# Altium footprint library BGA_Sq_127P.PcbLib: 89 footprints (part 5 of 20)
Each footprint in its own frame and in the unit in brackets; x right, y up, seen from the top. Pads: shape width x height; smd on the part's side, far side on the other; paste and mask are expansions set on the pad; w line width, h text height; cw(c..) or ccw(c..) is an arc to the next point about the centre after c.
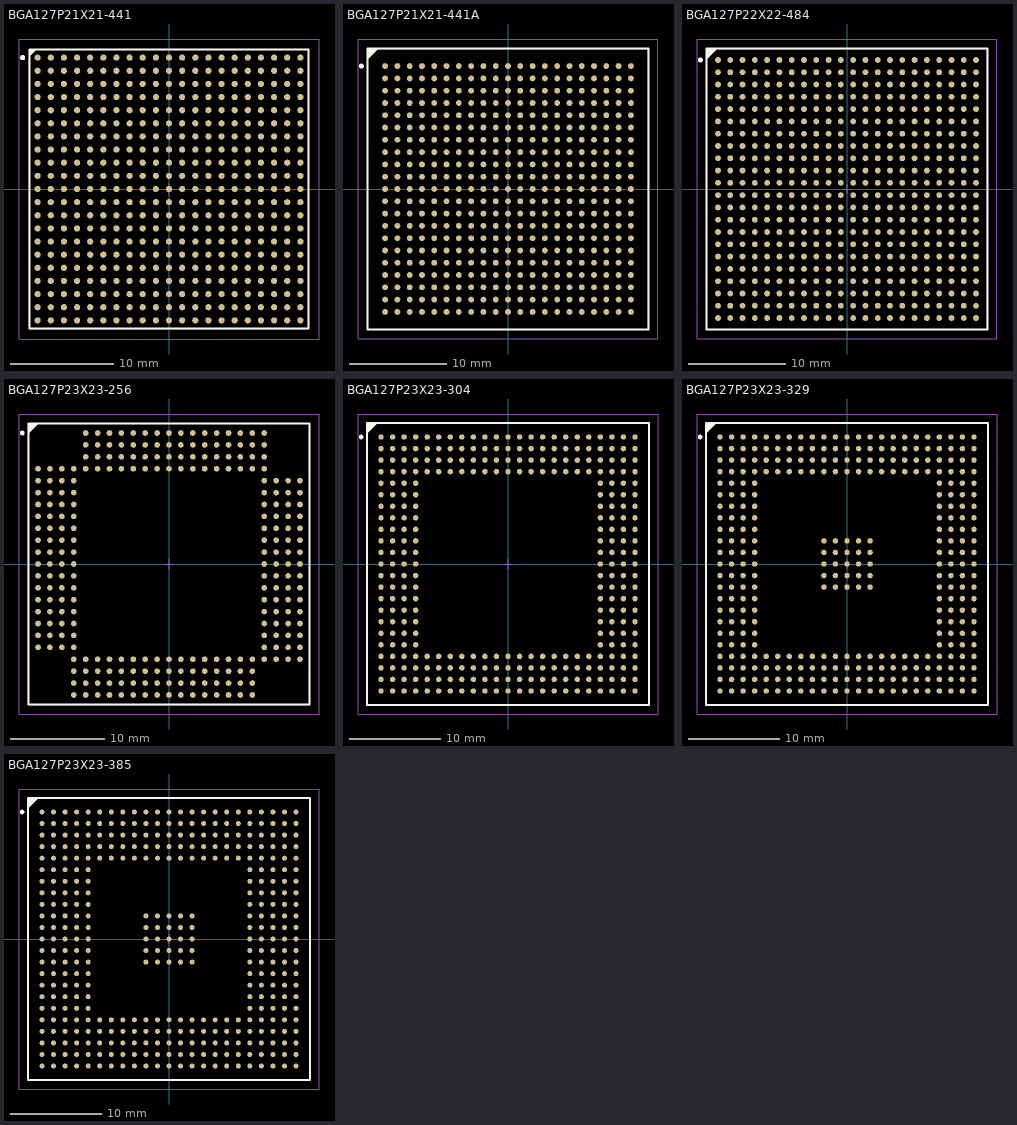
[diagram p4: the footprints below, top view; thin cyan lines are the x and y axes]

## BGA127P21X21-441 [mm] "BGA, 441-Leads, Body 27x27mm, Pitch 1.27mm"
height 3.5
pads (441):
  round 0.6 smd: A1(-12.7,12.7) A2(-11.43,12.7) A3(-10.16,12.7) A4(-8.89,12.7) A5(-7.62,12.7) A6(-6.35,12.7) A7(-5.08,12.7) A8(-3.81,12.7) A9(-2.54,12.7) A10(-1.27,12.7) A11(0,12.7) A12(1.27,12.7) A13(2.54,12.7) A14(3.81,12.7) A15(5.08,12.7) A16(6.35,12.7) A17(7.62,12.7) A18(8.89,12.7) A19(10.16,12.7) A20(11.43,12.7) A21(12.7,12.7) AA1(-12.7,-12.7) AA2(-11.43,-12.7) AA3(-10.16,-12.7) AA4(-8.89,-12.7) AA5(-7.62,-12.7) AA6(-6.35,-12.7) AA7(-5.08,-12.7) AA8(-3.81,-12.7) AA9(-2.54,-12.7) AA10(-1.27,-12.7) AA11(0,-12.7) AA12(1.27,-12.7) AA13(2.54,-12.7) AA14(3.81,-12.7) AA15(5.08,-12.7) AA16(6.35,-12.7) AA17(7.62,-12.7) AA18(8.89,-12.7) AA19(10.16,-12.7) AA20(11.43,-12.7) AA21(12.7,-12.7) B1(-12.7,11.43) B2(-11.43,11.43) B3(-10.16,11.43) B4(-8.89,11.43) B5(-7.62,11.43) B6(-6.35,11.43) B7(-5.08,11.43) B8(-3.81,11.43) B9(-2.54,11.43) B10(-1.27,11.43) B11(0,11.43) B12(1.27,11.43) B13(2.54,11.43) B14(3.81,11.43) B15(5.08,11.43) B16(6.35,11.43) B17(7.62,11.43) B18(8.89,11.43) B19(10.16,11.43) B20(11.43,11.43) B21(12.7,11.43) C1(-12.7,10.16) C2(-11.43,10.16) C3(-10.16,10.16) C4(-8.89,10.16) C5(-7.62,10.16) C6(-6.35,10.16) C7(-5.08,10.16) C8(-3.81,10.16) C9(-2.54,10.16) C10(-1.27,10.16) C11(0,10.16) C12(1.27,10.16) C13(2.54,10.16) C14(3.81,10.16) C15(5.08,10.16) C16(6.35,10.16) C17(7.62,10.16) C18(8.89,10.16) C19(10.16,10.16) C20(11.43,10.16) C21(12.7,10.16) D1(-12.7,8.89) D2(-11.43,8.89) D3(-10.16,8.89) D4(-8.89,8.89) D5(-7.62,8.89) D6(-6.35,8.89) D7(-5.08,8.89) D8(-3.81,8.89) D9(-2.54,8.89) D10(-1.27,8.89) D11(0,8.89) D12(1.27,8.89) D13(2.54,8.89) D14(3.81,8.89) D15(5.08,8.89) D16(6.35,8.89) D17(7.62,8.89) D18(8.89,8.89) D19(10.16,8.89) D20(11.43,8.89) D21(12.7,8.89) E1(-12.7,7.62) E2(-11.43,7.62) E3(-10.16,7.62) E4(-8.89,7.62) E5(-7.62,7.62) E6(-6.35,7.62) E7(-5.08,7.62) E8(-3.81,7.62) E9(-2.54,7.62) E10(-1.27,7.62) E11(0,7.62) E12(1.27,7.62) E13(2.54,7.62) E14(3.81,7.62) E15(5.08,7.62) E16(6.35,7.62) E17(7.62,7.62) E18(8.89,7.62) E19(10.16,7.62) E20(11.43,7.62) E21(12.7,7.62) F1(-12.7,6.35) F2(-11.43,6.35) F3(-10.16,6.35) F4(-8.89,6.35) F5(-7.62,6.35) F6(-6.35,6.35) F7(-5.08,6.35) F8(-3.81,6.35) F9(-2.54,6.35) F10(-1.27,6.35) F11(0,6.35) F12(1.27,6.35) F13(2.54,6.35) F14(3.81,6.35) F15(5.08,6.35) F16(6.35,6.35) F17(7.62,6.35) F18(8.89,6.35) F19(10.16,6.35) F20(11.43,6.35) F21(12.7,6.35) G1(-12.7,5.08) G2(-11.43,5.08) G3(-10.16,5.08) G4(-8.89,5.08) G5(-7.62,5.08) G6(-6.35,5.08) G7(-5.08,5.08) G8(-3.81,5.08) G9(-2.54,5.08) G10(-1.27,5.08) G11(0,5.08) G12(1.27,5.08) G13(2.54,5.08) G14(3.81,5.08) G15(5.08,5.08) G16(6.35,5.08) G17(7.62,5.08) G18(8.89,5.08) G19(10.16,5.08) G20(11.43,5.08) G21(12.7,5.08) H1(-12.7,3.81) H2(-11.43,3.81) H3(-10.16,3.81) H4(-8.89,3.81) H5(-7.62,3.81) H6(-6.35,3.81) H7(-5.08,3.81) H8(-3.81,3.81) H9(-2.54,3.81) H10(-1.27,3.81) H11(0,3.81) H12(1.27,3.81) H13(2.54,3.81) H14(3.81,3.81) H15(5.08,3.81) H16(6.35,3.81) H17(7.62,3.81) H18(8.89,3.81) H19(10.16,3.81) H20(11.43,3.81) H21(12.7,3.81) J1(-12.7,2.54) J2(-11.43,2.54) J3(-10.16,2.54) J4(-8.89,2.54) J5(-7.62,2.54) J6(-6.35,2.54) J7(-5.08,2.54) J8(-3.81,2.54) J9(-2.54,2.54) J10(-1.27,2.54) J11(0,2.54) J12(1.27,2.54) J13(2.54,2.54) J14(3.81,2.54) J15(5.08,2.54) J16(6.35,2.54) J17(7.62,2.54) J18(8.89,2.54) J19(10.16,2.54) J20(11.43,2.54) J21(12.7,2.54) K1(-12.7,1.27) K2(-11.43,1.27) K3(-10.16,1.27) K4(-8.89,1.27) K5(-7.62,1.27) K6(-6.35,1.27) K7(-5.08,1.27) K8(-3.81,1.27) K9(-2.54,1.27) K10(-1.27,1.27) K11(0,1.27) K12(1.27,1.27) K13(2.54,1.27) K14(3.81,1.27) K15(5.08,1.27) K16(6.35,1.27) K17(7.62,1.27) K18(8.89,1.27) K19(10.16,1.27) K20(11.43,1.27) K21(12.7,1.27) L1(-12.7,0) L2(-11.43,0) L3(-10.16,0) L4(-8.89,0) L5(-7.62,0) L6(-6.35,0) L7(-5.08,0) L8(-3.81,0) L9(-2.54,0) L10(-1.27,0) L11(0,0) L12(1.27,0) L13(2.54,0) L14(3.81,0) L15(5.08,0) L16(6.35,0) L17(7.62,0) L18(8.89,0) L19(10.16,0) L20(11.43,0) L21(12.7,0) M1(-12.7,-1.27) M2(-11.43,-1.27) M3(-10.16,-1.27) M4(-8.89,-1.27) M5(-7.62,-1.27) M6(-6.35,-1.27) M7(-5.08,-1.27) M8(-3.81,-1.27) M9(-2.54,-1.27) M10(-1.27,-1.27) M11(0,-1.27) M12(1.27,-1.27) M13(2.54,-1.27) M14(3.81,-1.27) M15(5.08,-1.27) M16(6.35,-1.27) M17(7.62,-1.27) M18(8.89,-1.27) M19(10.16,-1.27) M20(11.43,-1.27) M21(12.7,-1.27) N1(-12.7,-2.54) N2(-11.43,-2.54) N3(-10.16,-2.54) N4(-8.89,-2.54) N5(-7.62,-2.54) N6(-6.35,-2.54) N7(-5.08,-2.54) N8(-3.81,-2.54) N9(-2.54,-2.54) N10(-1.27,-2.54) N11(0,-2.54) N12(1.27,-2.54) N13(2.54,-2.54) N14(3.81,-2.54) N15(5.08,-2.54) N16(6.35,-2.54) N17(7.62,-2.54) N18(8.89,-2.54) N19(10.16,-2.54) N20(11.43,-2.54) N21(12.7,-2.54) P1(-12.7,-3.81) P2(-11.43,-3.81) P3(-10.16,-3.81) P4(-8.89,-3.81) P5(-7.62,-3.81) P6(-6.35,-3.81) P7(-5.08,-3.81) P8(-3.81,-3.81) P9(-2.54,-3.81) P10(-1.27,-3.81) P11(0,-3.81) P12(1.27,-3.81) P13(2.54,-3.81) P14(3.81,-3.81) P15(5.08,-3.81) P16(6.35,-3.81) P17(7.62,-3.81) P18(8.89,-3.81) P19(10.16,-3.81) P20(11.43,-3.81) P21(12.7,-3.81) R1(-12.7,-5.08) R2(-11.43,-5.08) R3(-10.16,-5.08) R4(-8.89,-5.08) R5(-7.62,-5.08) R6(-6.35,-5.08) R7(-5.08,-5.08) R8(-3.81,-5.08) R9(-2.54,-5.08) R10(-1.27,-5.08) R11(0,-5.08) R12(1.27,-5.08) R13(2.54,-5.08) R14(3.81,-5.08) R15(5.08,-5.08) R16(6.35,-5.08) R17(7.62,-5.08) R18(8.89,-5.08) R19(10.16,-5.08) R20(11.43,-5.08) R21(12.7,-5.08) T1(-12.7,-6.35) T2(-11.43,-6.35) T3(-10.16,-6.35) T4(-8.89,-6.35) T5(-7.62,-6.35) T6(-6.35,-6.35) T7(-5.08,-6.35) T8(-3.81,-6.35) T9(-2.54,-6.35) T10(-1.27,-6.35) T11(0,-6.35) T12(1.27,-6.35) T13(2.54,-6.35) T14(3.81,-6.35) T15(5.08,-6.35) T16(6.35,-6.35) T17(7.62,-6.35) T18(8.89,-6.35) T19(10.16,-6.35) T20(11.43,-6.35) T21(12.7,-6.35) U1(-12.7,-7.62) U2(-11.43,-7.62) U3(-10.16,-7.62) U4(-8.89,-7.62) U5(-7.62,-7.62) U6(-6.35,-7.62) U7(-5.08,-7.62) U8(-3.81,-7.62) U9(-2.54,-7.62) U10(-1.27,-7.62) U11(0,-7.62) U12(1.27,-7.62) U13(2.54,-7.62) U14(3.81,-7.62) U15(5.08,-7.62) U16(6.35,-7.62) U17(7.62,-7.62) U18(8.89,-7.62) U19(10.16,-7.62) U20(11.43,-7.62) U21(12.7,-7.62) V1(-12.7,-8.89) V2(-11.43,-8.89) V3(-10.16,-8.89) V4(-8.89,-8.89) V5(-7.62,-8.89) V6(-6.35,-8.89) V7(-5.08,-8.89) V8(-3.81,-8.89) V9(-2.54,-8.89) V10(-1.27,-8.89) V11(0,-8.89) V12(1.27,-8.89) V13(2.54,-8.89) V14(3.81,-8.89) V15(5.08,-8.89) V16(6.35,-8.89) V17(7.62,-8.89) V18(8.89,-8.89) V19(10.16,-8.89) V20(11.43,-8.89) V21(12.7,-8.89) W1(-12.7,-10.16) W2(-11.43,-10.16) W3(-10.16,-10.16) W4(-8.89,-10.16) W5(-7.62,-10.16) W6(-6.35,-10.16) W7(-5.08,-10.16) W8(-3.81,-10.16) W9(-2.54,-10.16) W10(-1.27,-10.16) W11(0,-10.16) W12(1.27,-10.16) W13(2.54,-10.16) W14(3.81,-10.16) W15(5.08,-10.16) W16(6.35,-10.16) W17(7.62,-10.16) W18(8.89,-10.16) W19(10.16,-10.16) W20(11.43,-10.16) W21(12.7,-10.16) Y1(-12.7,-11.43) Y2(-11.43,-11.43) Y3(-10.16,-11.43) Y4(-8.89,-11.43) Y5(-7.62,-11.43) Y6(-6.35,-11.43) Y7(-5.08,-11.43) Y8(-3.81,-11.43) Y9(-2.54,-11.43) Y10(-1.27,-11.43) Y11(0,-11.43) Y12(1.27,-11.43) Y13(2.54,-11.43) Y14(3.81,-11.43) Y15(5.08,-11.43) Y16(6.35,-11.43) Y17(7.62,-11.43) Y18(8.89,-11.43) Y19(10.16,-11.43) Y20(11.43,-11.43) Y21(12.7,-11.43)
Top Overlay:
  circle w0.25: c-14.15,12.7 r0.125
  region: -12.89,13.5 -13.5,12.89 -13.5,13.5
  lines w0.2: -13.5,12.89 -12.89,13.5 ; -13.5,-13.5 -13.5,13.5 13.5,13.5 13.5,-13.5 -13.5,-13.5
Mechanical 13:
  lines w0.1: -13.5,-13.5 -13.5,13.5 13.5,13.5 13.5,-13.5 -13.5,-13.5
Mechanical 15:
  lines w0.1: -0.5,0 0.5,0 ; 0,-0.5 0,0.5 ; -14.5,-14.5 -14.5,14.5 14.5,14.5 14.5,-14.5 -14.5,-14.5
3D body: height 3.5, standoff 0, extent -13.5,-13.5 13.5,13.5

## BGA127P21X21-441A [mm] "BGA, 441-Leads, Body 29x29mm, Pitch 1.27mm"
height 3.5
pads (441):
  round 0.6 smd: A1(-12.7,12.7) A2(-11.43,12.7) A3(-10.16,12.7) A4(-8.89,12.7) A5(-7.62,12.7) A6(-6.35,12.7) A7(-5.08,12.7) A8(-3.81,12.7) A9(-2.54,12.7) A10(-1.27,12.7) A11(0,12.7) A12(1.27,12.7) A13(2.54,12.7) A14(3.81,12.7) A15(5.08,12.7) A16(6.35,12.7) A17(7.62,12.7) A18(8.89,12.7) A19(10.16,12.7) A20(11.43,12.7) A21(12.7,12.7) AA1(-12.7,-12.7) AA2(-11.43,-12.7) AA3(-10.16,-12.7) AA4(-8.89,-12.7) AA5(-7.62,-12.7) AA6(-6.35,-12.7) AA7(-5.08,-12.7) AA8(-3.81,-12.7) AA9(-2.54,-12.7) AA10(-1.27,-12.7) AA11(0,-12.7) AA12(1.27,-12.7) AA13(2.54,-12.7) AA14(3.81,-12.7) AA15(5.08,-12.7) AA16(6.35,-12.7) AA17(7.62,-12.7) AA18(8.89,-12.7) AA19(10.16,-12.7) AA20(11.43,-12.7) AA21(12.7,-12.7) B1(-12.7,11.43) B2(-11.43,11.43) B3(-10.16,11.43) B4(-8.89,11.43) B5(-7.62,11.43) B6(-6.35,11.43) B7(-5.08,11.43) B8(-3.81,11.43) B9(-2.54,11.43) B10(-1.27,11.43) B11(0,11.43) B12(1.27,11.43) B13(2.54,11.43) B14(3.81,11.43) B15(5.08,11.43) B16(6.35,11.43) B17(7.62,11.43) B18(8.89,11.43) B19(10.16,11.43) B20(11.43,11.43) B21(12.7,11.43) C1(-12.7,10.16) C2(-11.43,10.16) C3(-10.16,10.16) C4(-8.89,10.16) C5(-7.62,10.16) C6(-6.35,10.16) C7(-5.08,10.16) C8(-3.81,10.16) C9(-2.54,10.16) C10(-1.27,10.16) C11(0,10.16) C12(1.27,10.16) C13(2.54,10.16) C14(3.81,10.16) C15(5.08,10.16) C16(6.35,10.16) C17(7.62,10.16) C18(8.89,10.16) C19(10.16,10.16) C20(11.43,10.16) C21(12.7,10.16) D1(-12.7,8.89) D2(-11.43,8.89) D3(-10.16,8.89) D4(-8.89,8.89) D5(-7.62,8.89) D6(-6.35,8.89) D7(-5.08,8.89) D8(-3.81,8.89) D9(-2.54,8.89) D10(-1.27,8.89) D11(0,8.89) D12(1.27,8.89) D13(2.54,8.89) D14(3.81,8.89) D15(5.08,8.89) D16(6.35,8.89) D17(7.62,8.89) D18(8.89,8.89) D19(10.16,8.89) D20(11.43,8.89) D21(12.7,8.89) E1(-12.7,7.62) E2(-11.43,7.62) E3(-10.16,7.62) E4(-8.89,7.62) E5(-7.62,7.62) E6(-6.35,7.62) E7(-5.08,7.62) E8(-3.81,7.62) E9(-2.54,7.62) E10(-1.27,7.62) E11(0,7.62) E12(1.27,7.62) E13(2.54,7.62) E14(3.81,7.62) E15(5.08,7.62) E16(6.35,7.62) E17(7.62,7.62) E18(8.89,7.62) E19(10.16,7.62) E20(11.43,7.62) E21(12.7,7.62) F1(-12.7,6.35) F2(-11.43,6.35) F3(-10.16,6.35) F4(-8.89,6.35) F5(-7.62,6.35) F6(-6.35,6.35) F7(-5.08,6.35) F8(-3.81,6.35) F9(-2.54,6.35) F10(-1.27,6.35) F11(0,6.35) F12(1.27,6.35) F13(2.54,6.35) F14(3.81,6.35) F15(5.08,6.35) F16(6.35,6.35) F17(7.62,6.35) F18(8.89,6.35) F19(10.16,6.35) F20(11.43,6.35) F21(12.7,6.35) G1(-12.7,5.08) G2(-11.43,5.08) G3(-10.16,5.08) G4(-8.89,5.08) G5(-7.62,5.08) G6(-6.35,5.08) G7(-5.08,5.08) G8(-3.81,5.08) G9(-2.54,5.08) G10(-1.27,5.08) G11(0,5.08) G12(1.27,5.08) G13(2.54,5.08) G14(3.81,5.08) G15(5.08,5.08) G16(6.35,5.08) G17(7.62,5.08) G18(8.89,5.08) G19(10.16,5.08) G20(11.43,5.08) G21(12.7,5.08) H1(-12.7,3.81) H2(-11.43,3.81) H3(-10.16,3.81) H4(-8.89,3.81) H5(-7.62,3.81) H6(-6.35,3.81) H7(-5.08,3.81) H8(-3.81,3.81) H9(-2.54,3.81) H10(-1.27,3.81) H11(0,3.81) H12(1.27,3.81) H13(2.54,3.81) H14(3.81,3.81) H15(5.08,3.81) H16(6.35,3.81) H17(7.62,3.81) H18(8.89,3.81) H19(10.16,3.81) H20(11.43,3.81) H21(12.7,3.81) J1(-12.7,2.54) J2(-11.43,2.54) J3(-10.16,2.54) J4(-8.89,2.54) J5(-7.62,2.54) J6(-6.35,2.54) J7(-5.08,2.54) J8(-3.81,2.54) J9(-2.54,2.54) J10(-1.27,2.54) J11(0,2.54) J12(1.27,2.54) J13(2.54,2.54) J14(3.81,2.54) J15(5.08,2.54) J16(6.35,2.54) J17(7.62,2.54) J18(8.89,2.54) J19(10.16,2.54) J20(11.43,2.54) J21(12.7,2.54) K1(-12.7,1.27) K2(-11.43,1.27) K3(-10.16,1.27) K4(-8.89,1.27) K5(-7.62,1.27) K6(-6.35,1.27) K7(-5.08,1.27) K8(-3.81,1.27) K9(-2.54,1.27) K10(-1.27,1.27) K11(0,1.27) K12(1.27,1.27) K13(2.54,1.27) K14(3.81,1.27) K15(5.08,1.27) K16(6.35,1.27) K17(7.62,1.27) K18(8.89,1.27) K19(10.16,1.27) K20(11.43,1.27) K21(12.7,1.27) L1(-12.7,0) L2(-11.43,0) L3(-10.16,0) L4(-8.89,0) L5(-7.62,0) L6(-6.35,0) L7(-5.08,0) L8(-3.81,0) L9(-2.54,0) L10(-1.27,0) L11(0,0) L12(1.27,0) L13(2.54,0) L14(3.81,0) L15(5.08,0) L16(6.35,0) L17(7.62,0) L18(8.89,0) L19(10.16,0) L20(11.43,0) L21(12.7,0) M1(-12.7,-1.27) M2(-11.43,-1.27) M3(-10.16,-1.27) M4(-8.89,-1.27) M5(-7.62,-1.27) M6(-6.35,-1.27) M7(-5.08,-1.27) M8(-3.81,-1.27) M9(-2.54,-1.27) M10(-1.27,-1.27) M11(0,-1.27) M12(1.27,-1.27) M13(2.54,-1.27) M14(3.81,-1.27) M15(5.08,-1.27) M16(6.35,-1.27) M17(7.62,-1.27) M18(8.89,-1.27) M19(10.16,-1.27) M20(11.43,-1.27) M21(12.7,-1.27) N1(-12.7,-2.54) N2(-11.43,-2.54) N3(-10.16,-2.54) N4(-8.89,-2.54) N5(-7.62,-2.54) N6(-6.35,-2.54) N7(-5.08,-2.54) N8(-3.81,-2.54) N9(-2.54,-2.54) N10(-1.27,-2.54) N11(0,-2.54) N12(1.27,-2.54) N13(2.54,-2.54) N14(3.81,-2.54) N15(5.08,-2.54) N16(6.35,-2.54) N17(7.62,-2.54) N18(8.89,-2.54) N19(10.16,-2.54) N20(11.43,-2.54) N21(12.7,-2.54) P1(-12.7,-3.81) P2(-11.43,-3.81) P3(-10.16,-3.81) P4(-8.89,-3.81) P5(-7.62,-3.81) P6(-6.35,-3.81) P7(-5.08,-3.81) P8(-3.81,-3.81) P9(-2.54,-3.81) P10(-1.27,-3.81) P11(0,-3.81) P12(1.27,-3.81) P13(2.54,-3.81) P14(3.81,-3.81) P15(5.08,-3.81) P16(6.35,-3.81) P17(7.62,-3.81) P18(8.89,-3.81) P19(10.16,-3.81) P20(11.43,-3.81) P21(12.7,-3.81) R1(-12.7,-5.08) R2(-11.43,-5.08) R3(-10.16,-5.08) R4(-8.89,-5.08) R5(-7.62,-5.08) R6(-6.35,-5.08) R7(-5.08,-5.08) R8(-3.81,-5.08) R9(-2.54,-5.08) R10(-1.27,-5.08) R11(0,-5.08) R12(1.27,-5.08) R13(2.54,-5.08) R14(3.81,-5.08) R15(5.08,-5.08) R16(6.35,-5.08) R17(7.62,-5.08) R18(8.89,-5.08) R19(10.16,-5.08) R20(11.43,-5.08) R21(12.7,-5.08) T1(-12.7,-6.35) T2(-11.43,-6.35) T3(-10.16,-6.35) T4(-8.89,-6.35) T5(-7.62,-6.35) T6(-6.35,-6.35) T7(-5.08,-6.35) T8(-3.81,-6.35) T9(-2.54,-6.35) T10(-1.27,-6.35) T11(0,-6.35) T12(1.27,-6.35) T13(2.54,-6.35) T14(3.81,-6.35) T15(5.08,-6.35) T16(6.35,-6.35) T17(7.62,-6.35) T18(8.89,-6.35) T19(10.16,-6.35) T20(11.43,-6.35) T21(12.7,-6.35) U1(-12.7,-7.62) U2(-11.43,-7.62) U3(-10.16,-7.62) U4(-8.89,-7.62) U5(-7.62,-7.62) U6(-6.35,-7.62) U7(-5.08,-7.62) U8(-3.81,-7.62) U9(-2.54,-7.62) U10(-1.27,-7.62) U11(0,-7.62) U12(1.27,-7.62) U13(2.54,-7.62) U14(3.81,-7.62) U15(5.08,-7.62) U16(6.35,-7.62) U17(7.62,-7.62) U18(8.89,-7.62) U19(10.16,-7.62) U20(11.43,-7.62) U21(12.7,-7.62) V1(-12.7,-8.89) V2(-11.43,-8.89) V3(-10.16,-8.89) V4(-8.89,-8.89) V5(-7.62,-8.89) V6(-6.35,-8.89) V7(-5.08,-8.89) V8(-3.81,-8.89) V9(-2.54,-8.89) V10(-1.27,-8.89) V11(0,-8.89) V12(1.27,-8.89) V13(2.54,-8.89) V14(3.81,-8.89) V15(5.08,-8.89) V16(6.35,-8.89) V17(7.62,-8.89) V18(8.89,-8.89) V19(10.16,-8.89) V20(11.43,-8.89) V21(12.7,-8.89) W1(-12.7,-10.16) W2(-11.43,-10.16) W3(-10.16,-10.16) W4(-8.89,-10.16) W5(-7.62,-10.16) W6(-6.35,-10.16) W7(-5.08,-10.16) W8(-3.81,-10.16) W9(-2.54,-10.16) W10(-1.27,-10.16) W11(0,-10.16) W12(1.27,-10.16) W13(2.54,-10.16) W14(3.81,-10.16) W15(5.08,-10.16) W16(6.35,-10.16) W17(7.62,-10.16) W18(8.89,-10.16) W19(10.16,-10.16) W20(11.43,-10.16) W21(12.7,-10.16) Y1(-12.7,-11.43) Y2(-11.43,-11.43) Y3(-10.16,-11.43) Y4(-8.89,-11.43) Y5(-7.62,-11.43) Y6(-6.35,-11.43) Y7(-5.08,-11.43) Y8(-3.81,-11.43) Y9(-2.54,-11.43) Y10(-1.27,-11.43) Y11(0,-11.43) Y12(1.27,-11.43) Y13(2.54,-11.43) Y14(3.81,-11.43) Y15(5.08,-11.43) Y16(6.35,-11.43) Y17(7.62,-11.43) Y18(8.89,-11.43) Y19(10.16,-11.43) Y20(11.43,-11.43) Y21(12.7,-11.43)
Top Overlay:
  circle w0.25: c-15.15,12.7 r0.125
  region: -13.5,14.5 -14.5,13.5 -14.5,14.5
  lines w0.2: -14.5,13.5 -13.5,14.5 ; -14.5,-14.5 14.5,-14.5 14.5,14.5 -14.5,14.5 -14.5,-14.5
Mechanical 13:
  lines w0.1: -14.5,-14.5 14.5,-14.5 14.5,14.5 -14.5,14.5 -14.5,-14.5
Mechanical 15:
  lines w0.1: -0.5,0 0.5,0 ; 0,-0.5 0,0.5 ; -15.5,-15.5 15.5,-15.5 15.5,15.5 -15.5,15.5 -15.5,-15.5
3D body: height 3.5, standoff 0, extent -14.5,-14.5 14.5,14.5

## BGA127P22X22-484 [mm] "BGA, 484-Leads, Body 29x29mm, Pitch 1.27mm"
height 3.5
pads (484):
  round 0.6 smd: A1(-13.335,13.335) A2(-12.065,13.335) A3(-10.795,13.335) A4(-9.525,13.335) A5(-8.255,13.335) A6(-6.985,13.335) A7(-5.715,13.335) A8(-4.445,13.335) A9(-3.175,13.335) A10(-1.905,13.335) A11(-0.635,13.335) A12(0.635,13.335) A13(1.905,13.335) A14(3.175,13.335) A15(4.445,13.335) A16(5.715,13.335) A17(6.985,13.335) A18(8.255,13.335) A19(9.525,13.335) A20(10.795,13.335) A21(12.065,13.335) A22(13.335,13.335) AA1(-13.335,-12.065) AA2(-12.065,-12.065) AA3(-10.795,-12.065) AA4(-9.525,-12.065) AA5(-8.255,-12.065) AA6(-6.985,-12.065) AA7(-5.715,-12.065) AA8(-4.445,-12.065) AA9(-3.175,-12.065) AA10(-1.905,-12.065) AA11(-0.635,-12.065) AA12(0.635,-12.065) AA13(1.905,-12.065) AA14(3.175,-12.065) AA15(4.445,-12.065) AA16(5.715,-12.065) AA17(6.985,-12.065) AA18(8.255,-12.065) AA19(9.525,-12.065) AA20(10.795,-12.065) AA21(12.065,-12.065) AA22(13.335,-12.065) AB1(-13.335,-13.335) AB2(-12.065,-13.335) AB3(-10.795,-13.335) AB4(-9.525,-13.335) AB5(-8.255,-13.335) AB6(-6.985,-13.335) AB7(-5.715,-13.335) AB8(-4.445,-13.335) AB9(-3.175,-13.335) AB10(-1.905,-13.335) AB11(-0.635,-13.335) AB12(0.635,-13.335) AB13(1.905,-13.335) AB14(3.175,-13.335) AB15(4.445,-13.335) AB16(5.715,-13.335) AB17(6.985,-13.335) AB18(8.255,-13.335) AB19(9.525,-13.335) AB20(10.795,-13.335) AB21(12.065,-13.335) AB22(13.335,-13.335) B1(-13.335,12.065) B2(-12.065,12.065) B3(-10.795,12.065) B4(-9.525,12.065) B5(-8.255,12.065) B6(-6.985,12.065) B7(-5.715,12.065) B8(-4.445,12.065) B9(-3.175,12.065) B10(-1.905,12.065) B11(-0.635,12.065) B12(0.635,12.065) B13(1.905,12.065) B14(3.175,12.065) B15(4.445,12.065) B16(5.715,12.065) B17(6.985,12.065) B18(8.255,12.065) B19(9.525,12.065) B20(10.795,12.065) B21(12.065,12.065) B22(13.335,12.065) C1(-13.335,10.795) C2(-12.065,10.795) C3(-10.795,10.795) C4(-9.525,10.795) C5(-8.255,10.795) C6(-6.985,10.795) C7(-5.715,10.795) C8(-4.445,10.795) C9(-3.175,10.795) C10(-1.905,10.795) C11(-0.635,10.795) C12(0.635,10.795) C13(1.905,10.795) C14(3.175,10.795) C15(4.445,10.795) C16(5.715,10.795) C17(6.985,10.795) C18(8.255,10.795) C19(9.525,10.795) C20(10.795,10.795) C21(12.065,10.795) C22(13.335,10.795) D1(-13.335,9.525) D2(-12.065,9.525) D3(-10.795,9.525) D4(-9.525,9.525) D5(-8.255,9.525) D6(-6.985,9.525) D7(-5.715,9.525) D8(-4.445,9.525) D9(-3.175,9.525) D10(-1.905,9.525) D11(-0.635,9.525) D12(0.635,9.525) D13(1.905,9.525) D14(3.175,9.525) D15(4.445,9.525) D16(5.715,9.525) D17(6.985,9.525) D18(8.255,9.525) D19(9.525,9.525) D20(10.795,9.525) D21(12.065,9.525) D22(13.335,9.525) E1(-13.335,8.255) E2(-12.065,8.255) E3(-10.795,8.255) E4(-9.525,8.255) E5(-8.255,8.255) E6(-6.985,8.255) E7(-5.715,8.255) E8(-4.445,8.255) E9(-3.175,8.255) E10(-1.905,8.255) E11(-0.635,8.255) E12(0.635,8.255) E13(1.905,8.255) E14(3.175,8.255) E15(4.445,8.255) E16(5.715,8.255) E17(6.985,8.255) E18(8.255,8.255) E19(9.525,8.255) E20(10.795,8.255) E21(12.065,8.255) E22(13.335,8.255) F1(-13.335,6.985) F2(-12.065,6.985) F3(-10.795,6.985) F4(-9.525,6.985) F5(-8.255,6.985) F6(-6.985,6.985) F7(-5.715,6.985) F8(-4.445,6.985) F9(-3.175,6.985) F10(-1.905,6.985) F11(-0.635,6.985) F12(0.635,6.985) F13(1.905,6.985) F14(3.175,6.985) F15(4.445,6.985) F16(5.715,6.985) F17(6.985,6.985) F18(8.255,6.985) F19(9.525,6.985) F20(10.795,6.985) F21(12.065,6.985) F22(13.335,6.985) G1(-13.335,5.715) G2(-12.065,5.715) G3(-10.795,5.715) G4(-9.525,5.715) G5(-8.255,5.715) G6(-6.985,5.715) G7(-5.715,5.715) G8(-4.445,5.715) G9(-3.175,5.715) G10(-1.905,5.715) G11(-0.635,5.715) G12(0.635,5.715) G13(1.905,5.715) G14(3.175,5.715) G15(4.445,5.715) G16(5.715,5.715) G17(6.985,5.715) G18(8.255,5.715) G19(9.525,5.715) G20(10.795,5.715) G21(12.065,5.715) G22(13.335,5.715) H1(-13.335,4.445) H2(-12.065,4.445) H3(-10.795,4.445) H4(-9.525,4.445) H5(-8.255,4.445) H6(-6.985,4.445) H7(-5.715,4.445) H8(-4.445,4.445) H9(-3.175,4.445) H10(-1.905,4.445) H11(-0.635,4.445) H12(0.635,4.445) H13(1.905,4.445) H14(3.175,4.445) H15(4.445,4.445) H16(5.715,4.445) H17(6.985,4.445) H18(8.255,4.445) H19(9.525,4.445) H20(10.795,4.445) H21(12.065,4.445) H22(13.335,4.445) J1(-13.335,3.175) J2(-12.065,3.175) J3(-10.795,3.175) J4(-9.525,3.175) J5(-8.255,3.175) J6(-6.985,3.175) J7(-5.715,3.175) J8(-4.445,3.175) J9(-3.175,3.175) J10(-1.905,3.175) J11(-0.635,3.175) J12(0.635,3.175) J13(1.905,3.175) J14(3.175,3.175) J15(4.445,3.175) J16(5.715,3.175) J17(6.985,3.175) J18(8.255,3.175) J19(9.525,3.175) J20(10.795,3.175) J21(12.065,3.175) J22(13.335,3.175) K1(-13.335,1.905) K2(-12.065,1.905) K3(-10.795,1.905) K4(-9.525,1.905) K5(-8.255,1.905) K6(-6.985,1.905) K7(-5.715,1.905) K8(-4.445,1.905) K9(-3.175,1.905) K10(-1.905,1.905) K11(-0.635,1.905) K12(0.635,1.905) K13(1.905,1.905) K14(3.175,1.905) K15(4.445,1.905) K16(5.715,1.905) K17(6.985,1.905) K18(8.255,1.905) K19(9.525,1.905) K20(10.795,1.905) K21(12.065,1.905) K22(13.335,1.905) L1(-13.335,0.635) L2(-12.065,0.635) L3(-10.795,0.635) L4(-9.525,0.635) L5(-8.255,0.635) L6(-6.985,0.635) L7(-5.715,0.635) L8(-4.445,0.635) L9(-3.175,0.635) L10(-1.905,0.635) L11(-0.635,0.635) L12(0.635,0.635) L13(1.905,0.635) L14(3.175,0.635) L15(4.445,0.635) L16(5.715,0.635) L17(6.985,0.635) L18(8.255,0.635) L19(9.525,0.635) L20(10.795,0.635) L21(12.065,0.635) L22(13.335,0.635) M1(-13.335,-0.635) M2(-12.065,-0.635) M3(-10.795,-0.635) M4(-9.525,-0.635) M5(-8.255,-0.635) M6(-6.985,-0.635) M7(-5.715,-0.635) M8(-4.445,-0.635) M9(-3.175,-0.635) M10(-1.905,-0.635) M11(-0.635,-0.635) M12(0.635,-0.635) M13(1.905,-0.635) M14(3.175,-0.635) M15(4.445,-0.635) M16(5.715,-0.635) M17(6.985,-0.635) M18(8.255,-0.635) M19(9.525,-0.635) M20(10.795,-0.635) M21(12.065,-0.635) M22(13.335,-0.635) N1(-13.335,-1.905) N2(-12.065,-1.905) N3(-10.795,-1.905) N4(-9.525,-1.905) N5(-8.255,-1.905) N6(-6.985,-1.905) N7(-5.715,-1.905) N8(-4.445,-1.905) N9(-3.175,-1.905) N10(-1.905,-1.905) N11(-0.635,-1.905) N12(0.635,-1.905) N13(1.905,-1.905) N14(3.175,-1.905) N15(4.445,-1.905) N16(5.715,-1.905) N17(6.985,-1.905) N18(8.255,-1.905) N19(9.525,-1.905) N20(10.795,-1.905) N21(12.065,-1.905) N22(13.335,-1.905) P1(-13.335,-3.175) P2(-12.065,-3.175) P3(-10.795,-3.175) P4(-9.525,-3.175) P5(-8.255,-3.175) P6(-6.985,-3.175) P7(-5.715,-3.175) P8(-4.445,-3.175) P9(-3.175,-3.175) P10(-1.905,-3.175) P11(-0.635,-3.175) P12(0.635,-3.175) P13(1.905,-3.175) P14(3.175,-3.175) P15(4.445,-3.175) P16(5.715,-3.175) P17(6.985,-3.175) P18(8.255,-3.175) P19(9.525,-3.175) P20(10.795,-3.175) P21(12.065,-3.175) P22(13.335,-3.175) R1(-13.335,-4.445) R2(-12.065,-4.445) R3(-10.795,-4.445) R4(-9.525,-4.445) R5(-8.255,-4.445) R6(-6.985,-4.445) R7(-5.715,-4.445) R8(-4.445,-4.445) R9(-3.175,-4.445) R10(-1.905,-4.445) R11(-0.635,-4.445) R12(0.635,-4.445) R13(1.905,-4.445) R14(3.175,-4.445) R15(4.445,-4.445) R16(5.715,-4.445) R17(6.985,-4.445) R18(8.255,-4.445) R19(9.525,-4.445) R20(10.795,-4.445) R21(12.065,-4.445) R22(13.335,-4.445) T1(-13.335,-5.715) T2(-12.065,-5.715) T3(-10.795,-5.715) T4(-9.525,-5.715) T5(-8.255,-5.715) T6(-6.985,-5.715) T7(-5.715,-5.715) T8(-4.445,-5.715) T9(-3.175,-5.715) T10(-1.905,-5.715) T11(-0.635,-5.715) T12(0.635,-5.715) T13(1.905,-5.715) T14(3.175,-5.715) T15(4.445,-5.715) T16(5.715,-5.715) T17(6.985,-5.715) T18(8.255,-5.715) T19(9.525,-5.715) T20(10.795,-5.715) T21(12.065,-5.715) T22(13.335,-5.715) U1(-13.335,-6.985) U2(-12.065,-6.985) U3(-10.795,-6.985) U4(-9.525,-6.985) U5(-8.255,-6.985) U6(-6.985,-6.985) U7(-5.715,-6.985) U8(-4.445,-6.985) U9(-3.175,-6.985) U10(-1.905,-6.985) U11(-0.635,-6.985) U12(0.635,-6.985) U13(1.905,-6.985) U14(3.175,-6.985) U15(4.445,-6.985) U16(5.715,-6.985) U17(6.985,-6.985) U18(8.255,-6.985) U19(9.525,-6.985) U20(10.795,-6.985) U21(12.065,-6.985) U22(13.335,-6.985) V1(-13.335,-8.255) V2(-12.065,-8.255) V3(-10.795,-8.255) V4(-9.525,-8.255) V5(-8.255,-8.255) V6(-6.985,-8.255) V7(-5.715,-8.255) V8(-4.445,-8.255) V9(-3.175,-8.255) V10(-1.905,-8.255) V11(-0.635,-8.255) V12(0.635,-8.255) V13(1.905,-8.255) V14(3.175,-8.255) V15(4.445,-8.255) V16(5.715,-8.255) V17(6.985,-8.255) V18(8.255,-8.255) V19(9.525,-8.255) V20(10.795,-8.255) V21(12.065,-8.255) V22(13.335,-8.255) W1(-13.335,-9.525) W2(-12.065,-9.525) W3(-10.795,-9.525) W4(-9.525,-9.525) W5(-8.255,-9.525) W6(-6.985,-9.525) W7(-5.715,-9.525) W8(-4.445,-9.525) W9(-3.175,-9.525) W10(-1.905,-9.525) W11(-0.635,-9.525) W12(0.635,-9.525) W13(1.905,-9.525) W14(3.175,-9.525) W15(4.445,-9.525) W16(5.715,-9.525) W17(6.985,-9.525) W18(8.255,-9.525) W19(9.525,-9.525) W20(10.795,-9.525) W21(12.065,-9.525) W22(13.335,-9.525) Y1(-13.335,-10.795) Y2(-12.065,-10.795) Y3(-10.795,-10.795) Y4(-9.525,-10.795) Y5(-8.255,-10.795) Y6(-6.985,-10.795) Y7(-5.715,-10.795) Y8(-4.445,-10.795) Y9(-3.175,-10.795) Y10(-1.905,-10.795) Y11(-0.635,-10.795) Y12(0.635,-10.795) Y13(1.905,-10.795) Y14(3.175,-10.795) Y15(4.445,-10.795) Y16(5.715,-10.795) Y17(6.985,-10.795) Y18(8.255,-10.795) Y19(9.525,-10.795) Y20(10.795,-10.795) Y21(12.065,-10.795) Y22(13.335,-10.795)
Top Overlay:
  circle w0.25: c-15.15,13.335 r0.125
  region: -13.5,14.5 -14.5,13.5 -14.5,14.5
  lines w0.2: -14.5,13.5 -13.5,14.5 ; -14.5,-14.5 -14.5,14.5 14.5,14.5 14.5,-14.5 -14.5,-14.5
Mechanical 13:
  lines w0.1: -14.5,-14.5 -14.5,14.5 14.5,14.5 14.5,-14.5 -14.5,-14.5
Mechanical 15:
  lines w0.1: -0.5,0 0.5,0 ; 0,-0.5 0,0.5 ; -15.5,-15.5 -15.5,15.5 15.5,15.5 15.5,-15.5 -15.5,-15.5
3D body: height 3.5, standoff 0, extent -14.5,-14.5 14.5,14.5

## BGA127P23X23-256 [mm] "256-Ball Ball Grid Array 1.27 mm Pitch"
height 2.52
pads (256):
  round 0.6 smd: A5(-8.89,13.97) A6(-7.62,13.97) A7(-6.35,13.97) A8(-5.08,13.97) A9(-3.81,13.97) A10(-2.54,13.97) A11(-1.27,13.97) A12(0,13.97) A13(1.27,13.97) A14(2.54,13.97) A15(3.81,13.97) A16(5.08,13.97) A17(6.35,13.97) A18(7.62,13.97) A19(8.89,13.97) A20(10.16,13.97) AA4(-10.16,-11.43) AA5(-8.89,-11.43) AA6(-7.62,-11.43) AA7(-6.35,-11.43) AA8(-5.08,-11.43) AA9(-3.81,-11.43) AA10(-2.54,-11.43) AA11(-1.27,-11.43) AA12(0,-11.43) AA13(1.27,-11.43) AA14(2.54,-11.43) AA15(3.81,-11.43) AA16(5.08,-11.43) AA17(6.35,-11.43) AA18(7.62,-11.43) AA19(8.89,-11.43) AB4(-10.16,-12.7) AB5(-8.89,-12.7) AB6(-7.62,-12.7) AB7(-6.35,-12.7) AB8(-5.08,-12.7) AB9(-3.81,-12.7) AB10(-2.54,-12.7) AB11(-1.27,-12.7) AB12(0,-12.7) AB13(1.27,-12.7) AB14(2.54,-12.7) AB15(3.81,-12.7) AB16(5.08,-12.7) AB17(6.35,-12.7) AB18(7.62,-12.7) AB19(8.89,-12.7) AC4(-10.16,-13.97) AC5(-8.89,-13.97) AC6(-7.62,-13.97) AC7(-6.35,-13.97) AC8(-5.08,-13.97) AC9(-3.81,-13.97) AC10(-2.54,-13.97) AC11(-1.27,-13.97) AC12(0,-13.97) AC13(1.27,-13.97) AC14(2.54,-13.97) AC15(3.81,-13.97) AC16(5.08,-13.97) AC17(6.35,-13.97) AC18(7.62,-13.97) AC19(8.89,-13.97) B5(-8.89,12.7) B6(-7.62,12.7) B7(-6.35,12.7) B8(-5.08,12.7) B9(-3.81,12.7) B10(-2.54,12.7) B11(-1.27,12.7) B12(0,12.7) B13(1.27,12.7) B14(2.54,12.7) B15(3.81,12.7) B16(5.08,12.7) B17(6.35,12.7) B18(7.62,12.7) B19(8.89,12.7) B20(10.16,12.7) C5(-8.89,11.43) C6(-7.62,11.43) C7(-6.35,11.43) C8(-5.08,11.43) C9(-3.81,11.43) C10(-2.54,11.43) C11(-1.27,11.43) C12(0,11.43) C13(1.27,11.43) C14(2.54,11.43) C15(3.81,11.43) C16(5.08,11.43) C17(6.35,11.43) C18(7.62,11.43) C19(8.89,11.43) C20(10.16,11.43) D1(-13.97,10.16) D2(-12.7,10.16) D3(-11.43,10.16) D4(-10.16,10.16) D5(-8.89,10.16) D6(-7.62,10.16) D7(-6.35,10.16) D8(-5.08,10.16) D9(-3.81,10.16) D10(-2.54,10.16) D11(-1.27,10.16) D12(0,10.16) D13(1.27,10.16) D14(2.54,10.16) D15(3.81,10.16) D16(5.08,10.16) D17(6.35,10.16) D18(7.62,10.16) D19(8.89,10.16) D20(10.16,10.16) E1(-13.97,8.89) E2(-12.7,8.89) E3(-11.43,8.89) E4(-10.16,8.89) E20(10.16,8.89) E21(11.43,8.89) E22(12.7,8.89) E23(13.97,8.89) F1(-13.97,7.62) F2(-12.7,7.62) F3(-11.43,7.62) F4(-10.16,7.62) F20(10.16,7.62) F21(11.43,7.62) F22(12.7,7.62) F23(13.97,7.62) G1(-13.97,6.35) G2(-12.7,6.35) G3(-11.43,6.35) G4(-10.16,6.35) G20(10.16,6.35) G21(11.43,6.35) G22(12.7,6.35) G23(13.97,6.35) H1(-13.97,5.08) H2(-12.7,5.08) H3(-11.43,5.08) H4(-10.16,5.08) H20(10.16,5.08) H21(11.43,5.08) H22(12.7,5.08) H23(13.97,5.08) J1(-13.97,3.81) J2(-12.7,3.81) J3(-11.43,3.81) J4(-10.16,3.81) J20(10.16,3.81) J21(11.43,3.81) J22(12.7,3.81) J23(13.97,3.81) K1(-13.97,2.54) K2(-12.7,2.54) K3(-11.43,2.54) K4(-10.16,2.54) K20(10.16,2.54) K21(11.43,2.54) K22(12.7,2.54) K23(13.97,2.54) L1(-13.97,1.27) L2(-12.7,1.27) L3(-11.43,1.27) L4(-10.16,1.27) L20(10.16,1.27) L21(11.43,1.27) L22(12.7,1.27) L23(13.97,1.27) M1(-13.97,0) M2(-12.7,0) M3(-11.43,0) M4(-10.16,0) M20(10.16,0) M21(11.43,0) M22(12.7,0) M23(13.97,0) N1(-13.97,-1.27) N2(-12.7,-1.27) N3(-11.43,-1.27) N4(-10.16,-1.27) N20(10.16,-1.27) N21(11.43,-1.27) N22(12.7,-1.27) N23(13.97,-1.27) P1(-13.97,-2.54) P2(-12.7,-2.54) P3(-11.43,-2.54) P4(-10.16,-2.54) P20(10.16,-2.54) P21(11.43,-2.54) P22(12.7,-2.54) P23(13.97,-2.54) R1(-13.97,-3.81) R2(-12.7,-3.81) R3(-11.43,-3.81) R4(-10.16,-3.81) R20(10.16,-3.81) R21(11.43,-3.81) R22(12.7,-3.81) R23(13.97,-3.81) T1(-13.97,-5.08) T2(-12.7,-5.08) T3(-11.43,-5.08) T4(-10.16,-5.08) T20(10.16,-5.08) T21(11.43,-5.08) T22(12.7,-5.08) T23(13.97,-5.08) U1(-13.97,-6.35) U2(-12.7,-6.35) U3(-11.43,-6.35) U4(-10.16,-6.35) U20(10.16,-6.35) U21(11.43,-6.35) U22(12.7,-6.35) U23(13.97,-6.35) V1(-13.97,-7.62) V2(-12.7,-7.62) V3(-11.43,-7.62) V4(-10.16,-7.62) V20(10.16,-7.62) V21(11.43,-7.62) V22(12.7,-7.62) V23(13.97,-7.62) W1(-13.97,-8.89) W2(-12.7,-8.89) W3(-11.43,-8.89) W4(-10.16,-8.89) W20(10.16,-8.89) W21(11.43,-8.89) W22(12.7,-8.89) W23(13.97,-8.89) Y4(-10.16,-10.16) Y5(-8.89,-10.16) Y6(-7.62,-10.16) Y7(-6.35,-10.16) Y8(-5.08,-10.16) Y9(-3.81,-10.16) Y10(-2.54,-10.16) Y11(-1.27,-10.16) Y12(0,-10.16) Y13(1.27,-10.16) Y14(2.54,-10.16) Y15(3.81,-10.16) Y16(5.08,-10.16) Y17(6.35,-10.16) Y18(7.62,-10.16) Y19(8.89,-10.16) Y20(10.16,-10.16) Y21(11.43,-10.16) Y22(12.7,-10.16) Y23(13.97,-10.16)
Top Overlay:
  circle w0.25: c-15.65,13.97 r0.125
  region: -14,15 -15,14 -15,15
  lines w0.2: -15,14 -14,15 ; -15,-15 -15,15 15,15 15,-15 -15,-15
Mechanical 13:
  lines w0.1: -15,-15 -15,15 15,15 15,-15 -15,-15
Mechanical 15:
  lines w0.1: -0.5,0 0.5,0 ; 0,-0.5 0,0.5 ; -16,-16 -16,16 16,16 16,-16 -16,-16
3D body: height 2.52, standoff 0, extent -15,-15 15,15

## BGA127P23X23-304 [mm] "BGA, 304-Leads, Body 31x31mm, Pitch 1.27mm"
height 2.54
pads (304):
  round 0.6 smd: A1(-13.97,13.97) A2(-12.7,13.97) A3(-11.43,13.97) A4(-10.16,13.97) A5(-8.89,13.97) A6(-7.62,13.97) A7(-6.35,13.97) A8(-5.08,13.97) A9(-3.81,13.97) A10(-2.54,13.97) A11(-1.27,13.97) A12(0,13.97) A13(1.27,13.97) A14(2.54,13.97) A15(3.81,13.97) A16(5.08,13.97) A17(6.35,13.97) A18(7.62,13.97) A19(8.89,13.97) A20(10.16,13.97) A21(11.43,13.97) A22(12.7,13.97) A23(13.97,13.97) AA1(-13.97,-11.43) AA2(-12.7,-11.43) AA3(-11.43,-11.43) AA4(-10.16,-11.43) AA5(-8.89,-11.43) AA6(-7.62,-11.43) AA7(-6.35,-11.43) AA8(-5.08,-11.43) AA9(-3.81,-11.43) AA10(-2.54,-11.43) AA11(-1.27,-11.43) AA12(0,-11.43) AA13(1.27,-11.43) AA14(2.54,-11.43) AA15(3.81,-11.43) AA16(5.08,-11.43) AA17(6.35,-11.43) AA18(7.62,-11.43) AA19(8.89,-11.43) AA20(10.16,-11.43) AA21(11.43,-11.43) AA22(12.7,-11.43) AA23(13.97,-11.43) AB1(-13.97,-12.7) AB2(-12.7,-12.7) AB3(-11.43,-12.7) AB4(-10.16,-12.7) AB5(-8.89,-12.7) AB6(-7.62,-12.7) AB7(-6.35,-12.7) AB8(-5.08,-12.7) AB9(-3.81,-12.7) AB10(-2.54,-12.7) AB11(-1.27,-12.7) AB12(0,-12.7) AB13(1.27,-12.7) AB14(2.54,-12.7) AB15(3.81,-12.7) AB16(5.08,-12.7) AB17(6.35,-12.7) AB18(7.62,-12.7) AB19(8.89,-12.7) AB20(10.16,-12.7) AB21(11.43,-12.7) AB22(12.7,-12.7) AB23(13.97,-12.7) AC1(-13.97,-13.97) AC2(-12.7,-13.97) AC3(-11.43,-13.97) AC4(-10.16,-13.97) AC5(-8.89,-13.97) AC6(-7.62,-13.97) AC7(-6.35,-13.97) AC8(-5.08,-13.97) AC9(-3.81,-13.97) AC10(-2.54,-13.97) AC11(-1.27,-13.97) AC12(0,-13.97) AC13(1.27,-13.97) AC14(2.54,-13.97) AC15(3.81,-13.97) AC16(5.08,-13.97) AC17(6.35,-13.97) AC18(7.62,-13.97) AC19(8.89,-13.97) AC20(10.16,-13.97) AC21(11.43,-13.97) AC22(12.7,-13.97) AC23(13.97,-13.97) B1(-13.97,12.7) B2(-12.7,12.7) B3(-11.43,12.7) B4(-10.16,12.7) B5(-8.89,12.7) B6(-7.62,12.7) B7(-6.35,12.7) B8(-5.08,12.7) B9(-3.81,12.7) B10(-2.54,12.7) B11(-1.27,12.7) B12(0,12.7) B13(1.27,12.7) B14(2.54,12.7) B15(3.81,12.7) B16(5.08,12.7) B17(6.35,12.7) B18(7.62,12.7) B19(8.89,12.7) B20(10.16,12.7) B21(11.43,12.7) B22(12.7,12.7) B23(13.97,12.7) C1(-13.97,11.43) C2(-12.7,11.43) C3(-11.43,11.43) C4(-10.16,11.43) C5(-8.89,11.43) C6(-7.62,11.43) C7(-6.35,11.43) C8(-5.08,11.43) C9(-3.81,11.43) C10(-2.54,11.43) C11(-1.27,11.43) C12(0,11.43) C13(1.27,11.43) C14(2.54,11.43) C15(3.81,11.43) C16(5.08,11.43) C17(6.35,11.43) C18(7.62,11.43) C19(8.89,11.43) C20(10.16,11.43) C21(11.43,11.43) C22(12.7,11.43) C23(13.97,11.43) D1(-13.97,10.16) D2(-12.7,10.16) D3(-11.43,10.16) D4(-10.16,10.16) D5(-8.89,10.16) D6(-7.62,10.16) D7(-6.35,10.16) D8(-5.08,10.16) D9(-3.81,10.16) D10(-2.54,10.16) D11(-1.27,10.16) D12(0,10.16) D13(1.27,10.16) D14(2.54,10.16) D15(3.81,10.16) D16(5.08,10.16) D17(6.35,10.16) D18(7.62,10.16) D19(8.89,10.16) D20(10.16,10.16) D21(11.43,10.16) D22(12.7,10.16) D23(13.97,10.16) E1(-13.97,8.89) E2(-12.7,8.89) E3(-11.43,8.89) E4(-10.16,8.89) E20(10.16,8.89) E21(11.43,8.89) E22(12.7,8.89) E23(13.97,8.89) F1(-13.97,7.62) F2(-12.7,7.62) F3(-11.43,7.62) F4(-10.16,7.62) F20(10.16,7.62) F21(11.43,7.62) F22(12.7,7.62) F23(13.97,7.62) G1(-13.97,6.35) G2(-12.7,6.35) G3(-11.43,6.35) G4(-10.16,6.35) G20(10.16,6.35) G21(11.43,6.35) G22(12.7,6.35) G23(13.97,6.35) H1(-13.97,5.08) H2(-12.7,5.08) H3(-11.43,5.08) H4(-10.16,5.08) H20(10.16,5.08) H21(11.43,5.08) H22(12.7,5.08) H23(13.97,5.08) J1(-13.97,3.81) J2(-12.7,3.81) J3(-11.43,3.81) J4(-10.16,3.81) J20(10.16,3.81) J21(11.43,3.81) J22(12.7,3.81) J23(13.97,3.81) K1(-13.97,2.54) K2(-12.7,2.54) K3(-11.43,2.54) K4(-10.16,2.54) K20(10.16,2.54) K21(11.43,2.54) K22(12.7,2.54) K23(13.97,2.54) L1(-13.97,1.27) L2(-12.7,1.27) L3(-11.43,1.27) L4(-10.16,1.27) L20(10.16,1.27) L21(11.43,1.27) L22(12.7,1.27) L23(13.97,1.27) M1(-13.97,0) M2(-12.7,0) M3(-11.43,0) M4(-10.16,0) M20(10.16,0) M21(11.43,0) M22(12.7,0) M23(13.97,0) N1(-13.97,-1.27) N2(-12.7,-1.27) N3(-11.43,-1.27) N4(-10.16,-1.27) N20(10.16,-1.27) N21(11.43,-1.27) N22(12.7,-1.27) N23(13.97,-1.27) P1(-13.97,-2.54) P2(-12.7,-2.54) P3(-11.43,-2.54) P4(-10.16,-2.54) P20(10.16,-2.54) P21(11.43,-2.54) P22(12.7,-2.54) P23(13.97,-2.54) R1(-13.97,-3.81) R2(-12.7,-3.81) R3(-11.43,-3.81) R4(-10.16,-3.81) R20(10.16,-3.81) R21(11.43,-3.81) R22(12.7,-3.81) R23(13.97,-3.81) T1(-13.97,-5.08) T2(-12.7,-5.08) T3(-11.43,-5.08) T4(-10.16,-5.08) T20(10.16,-5.08) T21(11.43,-5.08) T22(12.7,-5.08) T23(13.97,-5.08) U1(-13.97,-6.35) U2(-12.7,-6.35) U3(-11.43,-6.35) U4(-10.16,-6.35) U20(10.16,-6.35) U21(11.43,-6.35) U22(12.7,-6.35) U23(13.97,-6.35) V1(-13.97,-7.62) V2(-12.7,-7.62) V3(-11.43,-7.62) V4(-10.16,-7.62) V20(10.16,-7.62) V21(11.43,-7.62) V22(12.7,-7.62) V23(13.97,-7.62) W1(-13.97,-8.89) W2(-12.7,-8.89) W3(-11.43,-8.89) W4(-10.16,-8.89) W20(10.16,-8.89) W21(11.43,-8.89) W22(12.7,-8.89) W23(13.97,-8.89) Y1(-13.97,-10.16) Y2(-12.7,-10.16) Y3(-11.43,-10.16) Y4(-10.16,-10.16) Y5(-8.89,-10.16) Y6(-7.62,-10.16) Y7(-6.35,-10.16) Y8(-5.08,-10.16) Y9(-3.81,-10.16) Y10(-2.54,-10.16) Y11(-1.27,-10.16) Y12(0,-10.16) Y13(1.27,-10.16) Y14(2.54,-10.16) Y15(3.81,-10.16) Y16(5.08,-10.16) Y17(6.35,-10.16) Y18(7.62,-10.16) Y19(8.89,-10.16) Y20(10.16,-10.16) Y21(11.43,-10.16) Y22(12.7,-10.16) Y23(13.97,-10.16)
Top Overlay:
  circle w0.25: c-16.15,13.97 r0.125
  region: -14.5,15.5 -15.5,14.5 -15.5,15.5
  lines w0.2: -15.5,14.5 -14.5,15.5 ; -15.5,-15.5 15.5,-15.5 15.5,15.5 -15.5,15.5 -15.5,-15.5
Mechanical 13:
  lines w0.1: -15.5,-15.5 15.5,-15.5 15.5,15.5 -15.5,15.5 -15.5,-15.5
Mechanical 15:
  lines w0.1: -0.5,0 0.5,0 ; 0,-0.5 0,0.5 ; -16.5,-16.5 16.5,-16.5 16.5,16.5 -16.5,16.5 -16.5,-16.5
3D body: height 2.54, standoff 0, extent -15.5,-15.5 15.5,15.5

## BGA127P23X23-329 [mm] "BGA, 329-Leads, Body 31x31mm, Pitch 1.27mm"
height 2.7
pads (329):
  round 0.6 smd: A1(-13.97,13.97) A2(-12.7,13.97) A3(-11.43,13.97) A4(-10.16,13.97) A5(-8.89,13.97) A6(-7.62,13.97) A7(-6.35,13.97) A8(-5.08,13.97) A9(-3.81,13.97) A10(-2.54,13.97) A11(-1.27,13.97) A12(0,13.97) A13(1.27,13.97) A14(2.54,13.97) A15(3.81,13.97) A16(5.08,13.97) A17(6.35,13.97) A18(7.62,13.97) A19(8.89,13.97) A20(10.16,13.97) A21(11.43,13.97) A22(12.7,13.97) A23(13.97,13.97) AA1(-13.97,-11.43) AA2(-12.7,-11.43) AA3(-11.43,-11.43) AA4(-10.16,-11.43) AA5(-8.89,-11.43) AA6(-7.62,-11.43) AA7(-6.35,-11.43) AA8(-5.08,-11.43) AA9(-3.81,-11.43) AA10(-2.54,-11.43) AA11(-1.27,-11.43) AA12(0,-11.43) AA13(1.27,-11.43) AA14(2.54,-11.43) AA15(3.81,-11.43) AA16(5.08,-11.43) AA17(6.35,-11.43) AA18(7.62,-11.43) AA19(8.89,-11.43) AA20(10.16,-11.43) AA21(11.43,-11.43) AA22(12.7,-11.43) AA23(13.97,-11.43) AB1(-13.97,-12.7) AB2(-12.7,-12.7) AB3(-11.43,-12.7) AB4(-10.16,-12.7) AB5(-8.89,-12.7) AB6(-7.62,-12.7) AB7(-6.35,-12.7) AB8(-5.08,-12.7) AB9(-3.81,-12.7) AB10(-2.54,-12.7) AB11(-1.27,-12.7) AB12(0,-12.7) AB13(1.27,-12.7) AB14(2.54,-12.7) AB15(3.81,-12.7) AB16(5.08,-12.7) AB17(6.35,-12.7) AB18(7.62,-12.7) AB19(8.89,-12.7) AB20(10.16,-12.7) AB21(11.43,-12.7) AB22(12.7,-12.7) AB23(13.97,-12.7) AC1(-13.97,-13.97) AC2(-12.7,-13.97) AC3(-11.43,-13.97) AC4(-10.16,-13.97) AC5(-8.89,-13.97) AC6(-7.62,-13.97) AC7(-6.35,-13.97) AC8(-5.08,-13.97) AC9(-3.81,-13.97) AC10(-2.54,-13.97) AC11(-1.27,-13.97) AC12(0,-13.97) AC13(1.27,-13.97) AC14(2.54,-13.97) AC15(3.81,-13.97) AC16(5.08,-13.97) AC17(6.35,-13.97) AC18(7.62,-13.97) AC19(8.89,-13.97) AC20(10.16,-13.97) AC21(11.43,-13.97) AC22(12.7,-13.97) AC23(13.97,-13.97) B1(-13.97,12.7) B2(-12.7,12.7) B3(-11.43,12.7) B4(-10.16,12.7) B5(-8.89,12.7) B6(-7.62,12.7) B7(-6.35,12.7) B8(-5.08,12.7) B9(-3.81,12.7) B10(-2.54,12.7) B11(-1.27,12.7) B12(0,12.7) B13(1.27,12.7) B14(2.54,12.7) B15(3.81,12.7) B16(5.08,12.7) B17(6.35,12.7) B18(7.62,12.7) B19(8.89,12.7) B20(10.16,12.7) B21(11.43,12.7) B22(12.7,12.7) B23(13.97,12.7) C1(-13.97,11.43) C2(-12.7,11.43) C3(-11.43,11.43) C4(-10.16,11.43) C5(-8.89,11.43) C6(-7.62,11.43) C7(-6.35,11.43) C8(-5.08,11.43) C9(-3.81,11.43) C10(-2.54,11.43) C11(-1.27,11.43) C12(0,11.43) C13(1.27,11.43) C14(2.54,11.43) C15(3.81,11.43) C16(5.08,11.43) C17(6.35,11.43) C18(7.62,11.43) C19(8.89,11.43) C20(10.16,11.43) C21(11.43,11.43) C22(12.7,11.43) C23(13.97,11.43) D1(-13.97,10.16) D2(-12.7,10.16) D3(-11.43,10.16) D4(-10.16,10.16) D5(-8.89,10.16) D6(-7.62,10.16) D7(-6.35,10.16) D8(-5.08,10.16) D9(-3.81,10.16) D10(-2.54,10.16) D11(-1.27,10.16) D12(0,10.16) D13(1.27,10.16) D14(2.54,10.16) D15(3.81,10.16) D16(5.08,10.16) D17(6.35,10.16) D18(7.62,10.16) D19(8.89,10.16) D20(10.16,10.16) D21(11.43,10.16) D22(12.7,10.16) D23(13.97,10.16) E1(-13.97,8.89) E2(-12.7,8.89) E3(-11.43,8.89) E4(-10.16,8.89) E20(10.16,8.89) E21(11.43,8.89) E22(12.7,8.89) E23(13.97,8.89) F1(-13.97,7.62) F2(-12.7,7.62) F3(-11.43,7.62) F4(-10.16,7.62) F20(10.16,7.62) F21(11.43,7.62) F22(12.7,7.62) F23(13.97,7.62) G1(-13.97,6.35) G2(-12.7,6.35) G3(-11.43,6.35) G4(-10.16,6.35) G20(10.16,6.35) G21(11.43,6.35) G22(12.7,6.35) G23(13.97,6.35) H1(-13.97,5.08) H2(-12.7,5.08) H3(-11.43,5.08) H4(-10.16,5.08) H20(10.16,5.08) H21(11.43,5.08) H22(12.7,5.08) H23(13.97,5.08) J1(-13.97,3.81) J2(-12.7,3.81) J3(-11.43,3.81) J4(-10.16,3.81) J20(10.16,3.81) J21(11.43,3.81) J22(12.7,3.81) J23(13.97,3.81) K1(-13.97,2.54) K2(-12.7,2.54) K3(-11.43,2.54) K4(-10.16,2.54) K10(-2.54,2.54) K11(-1.27,2.54) K12(0,2.54) K13(1.27,2.54) K14(2.54,2.54) K20(10.16,2.54) K21(11.43,2.54) K22(12.7,2.54) K23(13.97,2.54) L1(-13.97,1.27) L2(-12.7,1.27) L3(-11.43,1.27) L4(-10.16,1.27) L10(-2.54,1.27) L11(-1.27,1.27) L12(0,1.27) L13(1.27,1.27) L14(2.54,1.27) L20(10.16,1.27) L21(11.43,1.27) L22(12.7,1.27) L23(13.97,1.27) M1(-13.97,0) M2(-12.7,0) M3(-11.43,0) M4(-10.16,0) M10(-2.54,0) M11(-1.27,0) M12(0,0) M13(1.27,0) M14(2.54,0) M20(10.16,0) M21(11.43,0) M22(12.7,0) M23(13.97,0) N1(-13.97,-1.27) N2(-12.7,-1.27) N3(-11.43,-1.27) N4(-10.16,-1.27) N10(-2.54,-1.27) N11(-1.27,-1.27) N12(0,-1.27) N13(1.27,-1.27) N14(2.54,-1.27) N20(10.16,-1.27) N21(11.43,-1.27) N22(12.7,-1.27) N23(13.97,-1.27) P1(-13.97,-2.54) P2(-12.7,-2.54) P3(-11.43,-2.54) P4(-10.16,-2.54) P10(-2.54,-2.54) P11(-1.27,-2.54) P12(0,-2.54) P13(1.27,-2.54) P14(2.54,-2.54) P20(10.16,-2.54) P21(11.43,-2.54) P22(12.7,-2.54) P23(13.97,-2.54) R1(-13.97,-3.81) R2(-12.7,-3.81) R3(-11.43,-3.81) R4(-10.16,-3.81) R20(10.16,-3.81) R21(11.43,-3.81) R22(12.7,-3.81) R23(13.97,-3.81) T1(-13.97,-5.08) T2(-12.7,-5.08) T3(-11.43,-5.08) T4(-10.16,-5.08) T20(10.16,-5.08) T21(11.43,-5.08) T22(12.7,-5.08) T23(13.97,-5.08) U1(-13.97,-6.35) U2(-12.7,-6.35) U3(-11.43,-6.35) U4(-10.16,-6.35) U20(10.16,-6.35) U21(11.43,-6.35) U22(12.7,-6.35) U23(13.97,-6.35) V1(-13.97,-7.62) V2(-12.7,-7.62) V3(-11.43,-7.62) V4(-10.16,-7.62) V20(10.16,-7.62) V21(11.43,-7.62) V22(12.7,-7.62) V23(13.97,-7.62) W1(-13.97,-8.89) W2(-12.7,-8.89) W3(-11.43,-8.89) W4(-10.16,-8.89) W20(10.16,-8.89) W21(11.43,-8.89) W22(12.7,-8.89) W23(13.97,-8.89) Y1(-13.97,-10.16) Y2(-12.7,-10.16) Y3(-11.43,-10.16) Y4(-10.16,-10.16) Y5(-8.89,-10.16) Y6(-7.62,-10.16) Y7(-6.35,-10.16) Y8(-5.08,-10.16) Y9(-3.81,-10.16) Y10(-2.54,-10.16) Y11(-1.27,-10.16) Y12(0,-10.16) Y13(1.27,-10.16) Y14(2.54,-10.16) Y15(3.81,-10.16) Y16(5.08,-10.16) Y17(6.35,-10.16) Y18(7.62,-10.16) Y19(8.89,-10.16) Y20(10.16,-10.16) Y21(11.43,-10.16) Y22(12.7,-10.16) Y23(13.97,-10.16)
Top Overlay:
  circle w0.25: c-16.15,13.97 r0.125
  region: -14.5,15.5 -15.5,14.5 -15.5,15.5
  lines w0.2: -15.5,14.5 -14.5,15.5 ; -15.5,-15.5 -15.5,15.5 15.5,15.5 15.5,-15.5 -15.5,-15.5
Mechanical 13:
  lines w0.1: -15.5,-15.5 -15.5,15.5 15.5,15.5 15.5,-15.5 -15.5,-15.5
Mechanical 15:
  lines w0.1: -0.5,0 0.5,0 ; 0,-0.5 0,0.5 ; -16.5,-16.5 -16.5,16.5 16.5,16.5 16.5,-16.5 -16.5,-16.5
3D body: height 2.7, standoff 0, extent -15.5,-15.5 15.5,15.5

## BGA127P23X23-385 [mm] "BGA, 385-Leads, Body 31x31mm, Pitch 1.27mm"
height 2.65
pads (385):
  round 0.55 smd: A1(-13.97,13.97) A2(-12.7,13.97) A3(-11.43,13.97) A4(-10.16,13.97) A5(-8.89,13.97) A6(-7.62,13.97) A7(-6.35,13.97) A8(-5.08,13.97) A9(-3.81,13.97) A10(-2.54,13.97) A11(-1.27,13.97) A12(0,13.97) A13(1.27,13.97) A14(2.54,13.97) A15(3.81,13.97) A16(5.08,13.97) A17(6.35,13.97) A18(7.62,13.97) A19(8.89,13.97) A20(10.16,13.97) A21(11.43,13.97) A22(12.7,13.97) A23(13.97,13.97) AA1(-13.97,-11.43) AA2(-12.7,-11.43) AA3(-11.43,-11.43) AA4(-10.16,-11.43) AA5(-8.89,-11.43) AA6(-7.62,-11.43) AA7(-6.35,-11.43) AA8(-5.08,-11.43) AA9(-3.81,-11.43) AA10(-2.54,-11.43) AA11(-1.27,-11.43) AA12(0,-11.43) AA13(1.27,-11.43) AA14(2.54,-11.43) AA15(3.81,-11.43) AA16(5.08,-11.43) AA17(6.35,-11.43) AA18(7.62,-11.43) AA19(8.89,-11.43) AA20(10.16,-11.43) AA21(11.43,-11.43) AA22(12.7,-11.43) AA23(13.97,-11.43) AB1(-13.97,-12.7) AB2(-12.7,-12.7) AB3(-11.43,-12.7) AB4(-10.16,-12.7) AB5(-8.89,-12.7) AB6(-7.62,-12.7) AB7(-6.35,-12.7) AB8(-5.08,-12.7) AB9(-3.81,-12.7) AB10(-2.54,-12.7) AB11(-1.27,-12.7) AB12(0,-12.7) AB13(1.27,-12.7) AB14(2.54,-12.7) AB15(3.81,-12.7) AB16(5.08,-12.7) AB17(6.35,-12.7) AB18(7.62,-12.7) AB19(8.89,-12.7) AB20(10.16,-12.7) AB21(11.43,-12.7) AB22(12.7,-12.7) AB23(13.97,-12.7) AC1(-13.97,-13.97) AC2(-12.7,-13.97) AC3(-11.43,-13.97) AC4(-10.16,-13.97) AC5(-8.89,-13.97) AC6(-7.62,-13.97) AC7(-6.35,-13.97) AC8(-5.08,-13.97) AC9(-3.81,-13.97) AC10(-2.54,-13.97) AC11(-1.27,-13.97) AC12(0,-13.97) AC13(1.27,-13.97) AC14(2.54,-13.97) AC15(3.81,-13.97) AC16(5.08,-13.97) AC17(6.35,-13.97) AC18(7.62,-13.97) AC19(8.89,-13.97) AC20(10.16,-13.97) AC21(11.43,-13.97) AC22(12.7,-13.97) AC23(13.97,-13.97) B1(-13.97,12.7) B2(-12.7,12.7) B3(-11.43,12.7) B4(-10.16,12.7) B5(-8.89,12.7) B6(-7.62,12.7) B7(-6.35,12.7) B8(-5.08,12.7) B9(-3.81,12.7) B10(-2.54,12.7) B11(-1.27,12.7) B12(0,12.7) B13(1.27,12.7) B14(2.54,12.7) B15(3.81,12.7) B16(5.08,12.7) B17(6.35,12.7) B18(7.62,12.7) B19(8.89,12.7) B20(10.16,12.7) B21(11.43,12.7) B22(12.7,12.7) B23(13.97,12.7) C1(-13.97,11.43) C2(-12.7,11.43) C3(-11.43,11.43) C4(-10.16,11.43) C5(-8.89,11.43) C6(-7.62,11.43) C7(-6.35,11.43) C8(-5.08,11.43) C9(-3.81,11.43) C10(-2.54,11.43) C11(-1.27,11.43) C12(0,11.43) C13(1.27,11.43) C14(2.54,11.43) C15(3.81,11.43) C16(5.08,11.43) C17(6.35,11.43) C18(7.62,11.43) C19(8.89,11.43) C20(10.16,11.43) C21(11.43,11.43) C22(12.7,11.43) C23(13.97,11.43) D1(-13.97,10.16) D2(-12.7,10.16) D3(-11.43,10.16) D4(-10.16,10.16) D5(-8.89,10.16) D6(-7.62,10.16) D7(-6.35,10.16) D8(-5.08,10.16) D9(-3.81,10.16) D10(-2.54,10.16) D11(-1.27,10.16) D12(0,10.16) D13(1.27,10.16) D14(2.54,10.16) D15(3.81,10.16) D16(5.08,10.16) D17(6.35,10.16) D18(7.62,10.16) D19(8.89,10.16) D20(10.16,10.16) D21(11.43,10.16) D22(12.7,10.16) D23(13.97,10.16) E1(-13.97,8.89) E2(-12.7,8.89) E3(-11.43,8.89) E4(-10.16,8.89) E5(-8.89,8.89) E6(-7.62,8.89) E7(-6.35,8.89) E8(-5.08,8.89) E9(-3.81,8.89) E10(-2.54,8.89) E11(-1.27,8.89) E12(0,8.89) E13(1.27,8.89) E14(2.54,8.89) E15(3.81,8.89) E16(5.08,8.89) E17(6.35,8.89) E18(7.62,8.89) E19(8.89,8.89) E20(10.16,8.89) E21(11.43,8.89) E22(12.7,8.89) E23(13.97,8.89) F1(-13.97,7.62) F2(-12.7,7.62) F3(-11.43,7.62) F4(-10.16,7.62) F5(-8.89,7.62) F19(8.89,7.62) F20(10.16,7.62) F21(11.43,7.62) F22(12.7,7.62) F23(13.97,7.62) G1(-13.97,6.35) G2(-12.7,6.35) G3(-11.43,6.35) G4(-10.16,6.35) G5(-8.89,6.35) G19(8.89,6.35) G20(10.16,6.35) G21(11.43,6.35) G22(12.7,6.35) G23(13.97,6.35) H1(-13.97,5.08) H2(-12.7,5.08) H3(-11.43,5.08) H4(-10.16,5.08) H5(-8.89,5.08) H19(8.89,5.08) H20(10.16,5.08) H21(11.43,5.08) H22(12.7,5.08) H23(13.97,5.08) J1(-13.97,3.81) J2(-12.7,3.81) J3(-11.43,3.81) J4(-10.16,3.81) J5(-8.89,3.81) J19(8.89,3.81) J20(10.16,3.81) J21(11.43,3.81) J22(12.7,3.81) J23(13.97,3.81) K1(-13.97,2.54) K2(-12.7,2.54) K3(-11.43,2.54) K4(-10.16,2.54) K5(-8.89,2.54) K10(-2.54,2.54) K11(-1.27,2.54) K12(0,2.54) K13(1.27,2.54) K14(2.54,2.54) K19(8.89,2.54) K20(10.16,2.54) K21(11.43,2.54) K22(12.7,2.54) K23(13.97,2.54) L1(-13.97,1.27) L2(-12.7,1.27) L3(-11.43,1.27) L4(-10.16,1.27) L5(-8.89,1.27) L10(-2.54,1.27) L11(-1.27,1.27) L12(0,1.27) L13(1.27,1.27) L14(2.54,1.27) L19(8.89,1.27) L20(10.16,1.27) L21(11.43,1.27) L22(12.7,1.27) L23(13.97,1.27) M1(-13.97,0) M2(-12.7,0) M3(-11.43,0) M4(-10.16,0) M5(-8.89,0) M10(-2.54,0) M11(-1.27,0) M12(0,0) M13(1.27,0) M14(2.54,0) M19(8.89,0) M20(10.16,0) M21(11.43,0) M22(12.7,0) M23(13.97,0) N1(-13.97,-1.27) N2(-12.7,-1.27) N3(-11.43,-1.27) N4(-10.16,-1.27) N5(-8.89,-1.27) N10(-2.54,-1.27) N11(-1.27,-1.27) N12(0,-1.27) N13(1.27,-1.27) N14(2.54,-1.27) N19(8.89,-1.27) N20(10.16,-1.27) N21(11.43,-1.27) N22(12.7,-1.27) N23(13.97,-1.27) P1(-13.97,-2.54) P2(-12.7,-2.54) P3(-11.43,-2.54) P4(-10.16,-2.54) P5(-8.89,-2.54) P10(-2.54,-2.54) P11(-1.27,-2.54) P12(0,-2.54) P13(1.27,-2.54) P14(2.54,-2.54) P19(8.89,-2.54) P20(10.16,-2.54) P21(11.43,-2.54) P22(12.7,-2.54) P23(13.97,-2.54) R1(-13.97,-3.81) R2(-12.7,-3.81) R3(-11.43,-3.81) R4(-10.16,-3.81) R5(-8.89,-3.81) R19(8.89,-3.81) R20(10.16,-3.81) R21(11.43,-3.81) R22(12.7,-3.81) R23(13.97,-3.81) T1(-13.97,-5.08) T2(-12.7,-5.08) T3(-11.43,-5.08) T4(-10.16,-5.08) T5(-8.89,-5.08) T19(8.89,-5.08) T20(10.16,-5.08) T21(11.43,-5.08) T22(12.7,-5.08) T23(13.97,-5.08) U1(-13.97,-6.35) U2(-12.7,-6.35) U3(-11.43,-6.35) U4(-10.16,-6.35) U5(-8.89,-6.35) U19(8.89,-6.35) U20(10.16,-6.35) U21(11.43,-6.35) U22(12.7,-6.35) U23(13.97,-6.35) V1(-13.97,-7.62) V2(-12.7,-7.62) V3(-11.43,-7.62) V4(-10.16,-7.62) V5(-8.89,-7.62) V19(8.89,-7.62) V20(10.16,-7.62) V21(11.43,-7.62) V22(12.7,-7.62) V23(13.97,-7.62) W1(-13.97,-8.89) W2(-12.7,-8.89) W3(-11.43,-8.89) W4(-10.16,-8.89) W5(-8.89,-8.89) W6(-7.62,-8.89) W7(-6.35,-8.89) W8(-5.08,-8.89) W9(-3.81,-8.89) W10(-2.54,-8.89) W11(-1.27,-8.89) W12(0,-8.89) W13(1.27,-8.89) W14(2.54,-8.89) W15(3.81,-8.89) W16(5.08,-8.89) W17(6.35,-8.89) W18(7.62,-8.89) W19(8.89,-8.89) W20(10.16,-8.89) W21(11.43,-8.89) W22(12.7,-8.89) W23(13.97,-8.89) Y1(-13.97,-10.16) Y2(-12.7,-10.16) Y3(-11.43,-10.16) Y4(-10.16,-10.16) Y5(-8.89,-10.16) Y6(-7.62,-10.16) Y7(-6.35,-10.16) Y8(-5.08,-10.16) Y9(-3.81,-10.16) Y10(-2.54,-10.16) Y11(-1.27,-10.16) Y12(0,-10.16) Y13(1.27,-10.16) Y14(2.54,-10.16) Y15(3.81,-10.16) Y16(5.08,-10.16) Y17(6.35,-10.16) Y18(7.62,-10.16) Y19(8.89,-10.16) Y20(10.16,-10.16) Y21(11.43,-10.16) Y22(12.7,-10.16) Y23(13.97,-10.16)
Top Overlay:
  circle w0.25: c-16.15,13.97 r0.125
  region: -14.5,15.5 -15.5,14.5 -15.5,15.5
  lines w0.2: -15.5,14.5 -14.5,15.5 ; -15.5,-15.5 -15.5,15.5 15.5,15.5 15.5,-15.5 -15.5,-15.5
Mechanical 13:
  lines w0.1: -15.5,-15.5 -15.5,15.5 15.5,15.5 15.5,-15.5 -15.5,-15.5
Mechanical 15:
  lines w0.1: -0.5,0 0.5,0 ; 0,-0.5 0,0.5 ; -16.5,-16.5 -16.5,16.5 16.5,16.5 16.5,-16.5 -16.5,-16.5
3D body: height 2.65, standoff 0, extent -15.5,-15.5 15.5,15.5